# Altium footprint library WE-TIS.PcbLib: 2 footprints
Each footprint in its own frame and in the unit in brackets; x right, y up, seen from the top. Pads: shape width x height; smd on the part's side, far side on the other; paste and mask are expansions set on the pad; w line width, h text height; cw(c..) or ccw(c..) is an arc to the next point about the centre after c.
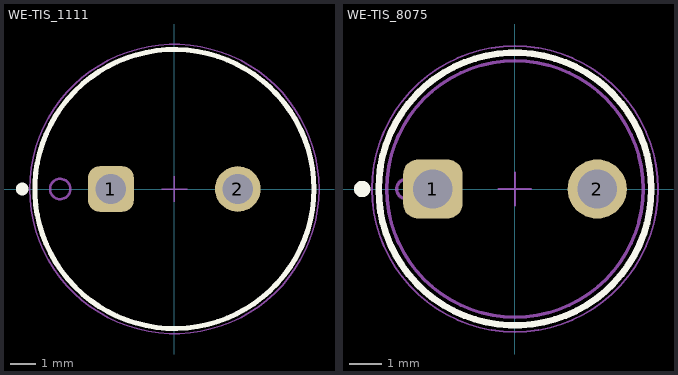
[diagram p0: the footprints below, top view; thin cyan lines are the x and y axes]

## WE-TIS_1111 [mm] "THT Shielded Radial Leaded Wire Wound Inductor, body diameter 11mm"
height 11.5
pads (2):
  rrect50% 1.8x1.8 hole 1.2: 1(-2.5,0)
  round 1.8 hole 1.2: 2(2.5,0)
Top Overlay:
  circle w0.25: c-6,0 r0.125
  circle w0.2: c0,0 r5.5
Top Designator:
  text ".Designator" at -7.498,-0.5 h1.5
Top Component Outline:
  circle w0.1: c-4.5,0 r0.4
  circle w0.1: c0,0 r5.5
Top 3D Body:
  circle w0.1: c-4.5,0 r0.4
  circle w0.1: c0,0 r5.5
Top Courtyard:
  circle w0.05: c0,0 r5.7
  lines w0.05: -0.5,0 0.5,0 ; 0,-0.5 0,0.5
3D body "7447471xxx.stp": height 10.6, standoff -3.4, extent -5.3,-5.3 5.3,5.3

## WE-TIS_8075 [mm] "THT Shielded Radial Leaded Wire Wound Inductor, body diameter 7.8mm"
height 7.5
pads (2):
  rrect50% 1.8x1.8 hole 1.2: 1(-2.5,0)
  round 1.8 hole 1.2: 2(2.5,0)
Top Overlay:
  circle w0.2: c0,0 r4.15
  circle w0.25: c-4.65,0 r0.125
Top Designator:
  text ".Designator" at -7.498,-0.5 h1.5
Top Component Outline:
  circle w0.1: c0,0 r3.9
  circle w0.1: c-3.3,0 r0.3
Top 3D Body:
  circle w0.1: c-3.3,0 r0.3
  circle w0.1: c0,0 r3.9
Top Courtyard:
  circle w0.05: c0,0 r4.35
  lines w0.05: -0.5,0 0.5,0 ; 0,-0.5 0,0.5
3D body "744731xxx.stp": height 7.55, standoff -4.95, extent -3.899,-3.899 3.9,3.898